# Altium schematic symbol library SCH - DIODES - LED - DUAL COMMON CATHODE.SCHLIB: 1 symbol
Pins are listed as number, name and electrical type; pins without a type are passive.

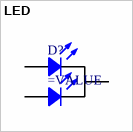
[diagram p0: symbol LED]

## LED
designator D?
BiColor Chip LED Common Cathode
pins: 1, 2, 3